# Altium footprint library Connector.PcbLib: 88 footprints (part 6 of 6)
Each footprint in its own frame and in the unit in brackets; x right, y up, seen from the top. Pads: shape width x height; smd on the part's side, far side on the other; paste and mask are expansions set on the pad; w line width, h text height; cw(c..) or ccw(c..) is an arc to the next point about the centre after c.
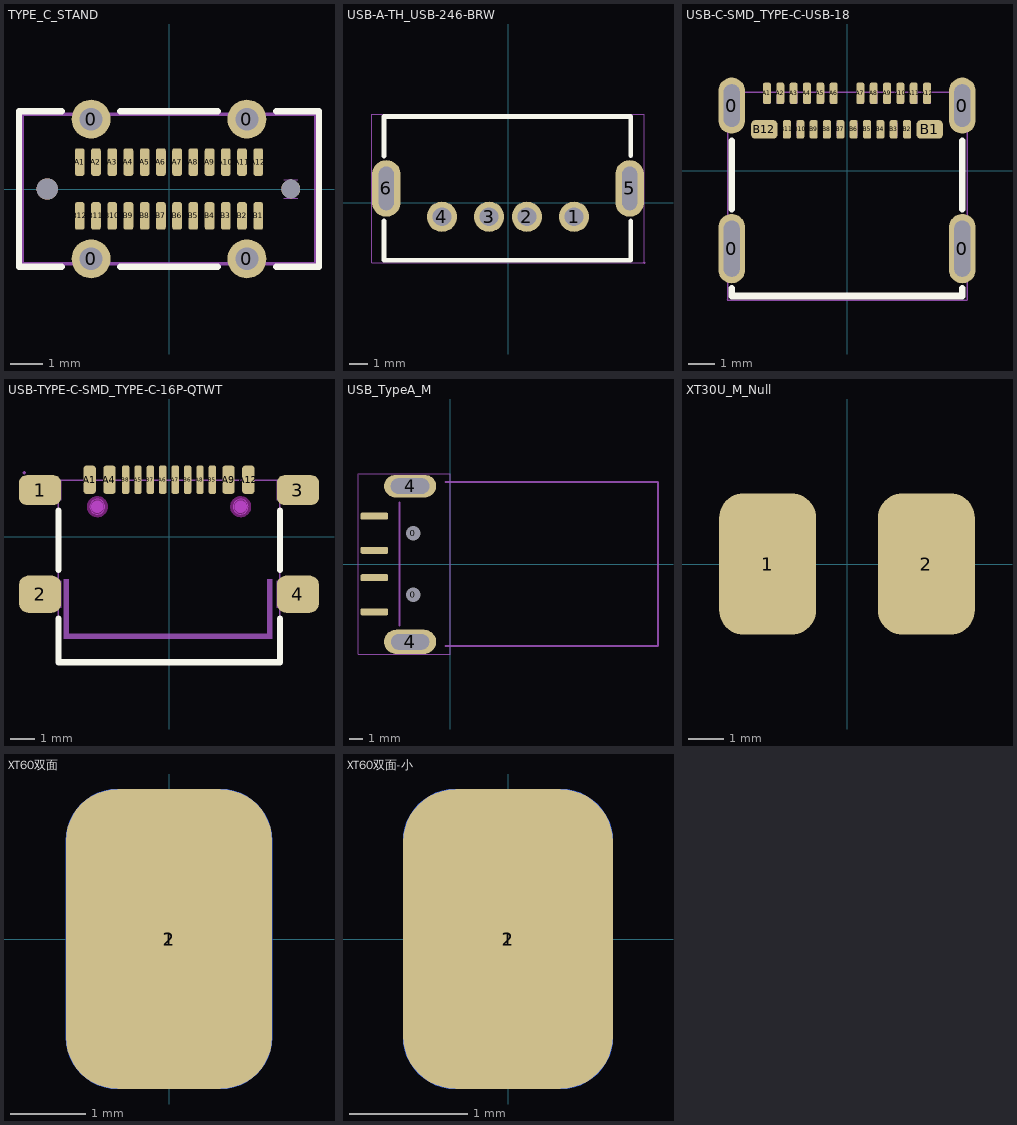
[diagram p5: the footprints below, top view; thin cyan lines are the x and y axes]

## TYPE_C_STAND [mm] "立贴Type-C_24P"
height 4.3
pads (30):
  round 1.2 hole 0.7: 0(-2.4,-2.15) 0(-2.4,2.15) 0(2.4,-2.15) 0(2.4,2.15)
  rrect50% 0.3x0.85 smd: A1(-2.75,0.83) A2(-2.25,0.83) A3(-1.75,0.83) A4(-1.25,0.83) A5(-0.75,0.83) A6(-0.25,0.83) A7(0.25,0.83) A8(0.75,0.83) A9(1.25,0.83) A10(1.75,0.83) A11(2.25,0.83) A12(2.75,0.83) B1(2.75,-0.83) B2(2.25,-0.83) B3(1.75,-0.83) B4(1.25,-0.83) B5(0.75,-0.83) B6(0.25,-0.83) B7(-0.25,-0.83) B8(-0.75,-0.83) B9(-1.25,-0.83) B10(-1.75,-0.83) B11(-2.25,-0.83) B12(-2.75,-0.83)
  round 0.66 hole 0.66 unplated: ""(-3.75,0)
  round 0.58 hole 0.58 unplated: ""(3.75,0)
Top Overlay:
  lines w0.2: -3.3,-2.4 -4.62,-2.4 -4.62,2.4 -3.3,2.4 ; -1.5,-2.4 1.5,-2.4 ; -1.5,2.4 1.5,2.4 ; 3.3,-2.4 4.62,-2.4 4.62,2.4 3.3,2.4
Mechanical 1:
  lines w0.01: 3.54,-0.29 3.96,-0.29 ; 3.54,0.29 3.96,0.29
Mechanical 13:
  lines w0.1: -4.52,-2.3 4.52,-2.3 4.52,2.3 -4.52,2.3 -4.52,-2.3
3D body "632722110112_1.step": height 7.39, standoff -1.32, extent -4.52,-2.3 4.52,2.3

## USB-A-TH_USB-246-BRW [mm]
pads (6):
  round 1.6 hole 1 paste-2539.97 mask+0.051: 1(3.5,-0.75) 2(1,-0.75) 3(-1,-0.75) 4(-3.5,-0.75)
  oval 1.524x3 hole 0.8 slot 2.3 at 90 deg paste-2539.97 mask+0.051: 5(6.45,0.75) 6(-6.45,0.75)
Top Overlay:
  lines w0.254: -6.577,-0.973 -6.577,-3.06 6.504,-3.06 6.504,-0.98 ; -6.577,2.473 -6.577,4.56 6.504,4.56 6.504,2.48
Mechanical 15:
  region: 6.77,1.5 6.77,0 6.13,0 6.13,1.5
  region: -6.13,1.5 -6.13,0 -6.77,0 -6.77,1.5
  region: 7.272,-3.187 7.272,-3.162 7.237,-3.127 7.187,-3.127 7.152,-3.162 7.152,-3.187 7.152,-3.212 7.187,-3.247 7.237,-3.247 7.272,-3.212 7.272,-3.187
  region: 3.9,-0.75 3.9,-0.67 3.839,-0.523 3.727,-0.411 3.58,-0.35 3.421,-0.35 3.274,-0.411 3.161,-0.523 3.1,-0.67 3.1,-0.75 3.1,-0.829 3.161,-0.976 3.274,-1.089 3.421,-1.15 3.58,-1.15 3.727,-1.089 3.839,-0.976 3.9,-0.829 3.9,-0.75
  region: 1.4,-0.75 1.4,-0.67 1.339,-0.523 1.227,-0.411 1.08,-0.35 0.92,-0.35 0.773,-0.411 0.661,-0.523 0.6,-0.67 0.6,-0.75 0.6,-0.829 0.661,-0.976 0.773,-1.089 0.92,-1.15 1.08,-1.15 1.227,-1.089 1.339,-0.976 1.4,-0.829 1.4,-0.75
  region: -0.6,-0.75 -0.6,-0.67 -0.661,-0.523 -0.773,-0.411 -0.92,-0.35 -1.08,-0.35 -1.227,-0.411 -1.339,-0.523 -1.4,-0.67 -1.4,-0.75 -1.4,-0.829 -1.339,-0.976 -1.227,-1.089 -1.08,-1.15 -0.92,-1.15 -0.773,-1.089 -0.661,-0.976 -0.6,-0.829 -0.6,-0.75
  region: -3.1,-0.75 -3.1,-0.67 -3.161,-0.523 -3.273,-0.411 -3.42,-0.35 -3.579,-0.35 -3.726,-0.411 -3.839,-0.523 -3.9,-0.67 -3.9,-0.75 -3.9,-0.829 -3.839,-0.976 -3.726,-1.089 -3.579,-1.15 -3.42,-1.15 -3.273,-1.089 -3.161,-0.976 -3.1,-0.829 -3.1,-0.75
  lines w0.051: -7.212,-3.187 -7.212,4.687 7.212,4.687 7.212,-3.187 -7.212,-3.187

## USB-C-SMD_TYPE-C-USB-18 [mm]
pads (28):
  oval 1x2.6 hole 0.6 slot 2.1 at 90 deg mask+0.05: 0(-4.32,-2.91) 0(4.32,-2.91)
  oval 1x2.1 hole 0.6 slot 1.6 at 90 deg mask+0.05: 0(-4.32,2.45) 0(4.32,2.45)
  rrect50% 0.3x0.8 smd mask+0.051: A1(-3,2.91) A2(-2.5,2.91) A3(-2,2.91) A4(-1.5,2.91) A5(-1,2.91) A6(-0.5,2.91) A7(0.5,2.91) A8(1,2.91) A9(1.5,2.91) A10(2,2.91) A11(2.5,2.91) A12(3,2.91)
  rrect50% 1x0.7 smd mask+0.05: B1(3.1,1.56) B12(-3.1,1.56)
  rrect50% 0.3x0.7 smd mask+0.051: B2(2.25,1.56) B3(1.75,1.56) B4(1.25,1.56) B5(0.75,1.56) B6(0.25,1.56) B7(-0.25,1.56) B8(-0.75,1.56) B9(-1.25,1.56) B10(-1.75,1.56) B11(-2.25,1.56)
Top Overlay:
  lines w0.254: -4.32,-4.391 -4.32,-4.68 4.32,-4.68 4.32,-4.391 ; -4.32,-1.429 -4.32,1.119 ; 4.32,-1.429 4.32,1.119
Top Paste:
  drawing of 28 lines, arcs and shapes, not listed
Mechanical 15:
  drawing of 36 lines, arcs and shapes, not listed
3D body "1.step": height 3.26, standoff -1, extent -4.475,-4.572 4.475,3.178

## USB-TYPE-C-SMD_TYPE-C-16P-QTWT [mm]
pads (16):
  rrect50% 1.7x1.2 smd: 1(-5.2,1.891) 3(5.2,1.891)
  rrect50% 1.7x1.5 smd: 2(-5.2,-2.309) 4(5.2,-2.309)
  rrect50% 0.5x1.14 smd: A1(-3.2,2.308) A4(-2.4,2.308) A9(2.4,2.308) A12(3.2,2.308)
  rrect50% 0.3x1.14 smd: A5(-1.25,2.308) A6(-0.25,2.308) A7(0.25,2.308) A8(1.25,2.309) B5(1.75,2.308) B6(0.75,2.308) B7(-0.75,2.308) B8(-1.75,2.309)
Top Overlay:
  lines w0.254: -4.46,-3.29 -4.46,-5.049 4.48,-5.049 4.48,-3.29 ; -4.46,-1.328 -4.46,1.06 ; 4.48,-1.328 4.48,1.061
Keep-Out Layer:
  board cut-out: -2.59,1.221 -2.591,1.28 -2.637,1.389 -2.721,1.472 -2.831,1.517 -2.949,1.517 -3.058,1.472 -3.143,1.389 -3.189,1.28 -3.19,1.221 -3.189,1.162 -3.143,1.053 -3.058,0.97 -2.949,0.925 -2.831,0.925 -2.721,0.97 -2.637,1.053 -2.591,1.162 -2.59,1.221
  board cut-out: 3.19,1.221 3.189,1.28 3.143,1.389 3.058,1.472 2.949,1.517 2.831,1.517 2.722,1.472 2.637,1.389 2.591,1.28 2.59,1.221 2.591,1.162 2.637,1.053 2.722,0.97 2.831,0.925 2.949,0.925 3.059,0.97 3.143,1.053 3.189,1.162 3.19,1.221
Mechanical 1:
  circle w0.025: c-2.89,1.221 r0.3
  circle w0.025: c2.89,1.221 r0.3
Mechanical 6:
  circle w0.25: c-2.89,1.221 r0.125
  circle w0.25: c2.89,1.221 r0.125
  region: -4.24,-1.699 -4.24,-4.099 -4.04,-4.099 -4.04,-1.699
  region: 4.16,-1.699 4.16,-4.099 3.96,-4.099 3.96,-1.699
  region: 3.96,-4.099 -4.04,-4.099 -4.04,-3.899 3.96,-3.899
Mechanical 15:
  region: -5.84,-1.759 -4.34,-1.759 -4.34,-2.859 -5.84,-2.859
  region: 4.34,-1.759 5.84,-1.759 5.84,-2.859 4.34,-2.859
  region: -5.84,2.291 -4.34,2.291 -4.34,1.491 -5.84,1.491
  region: 4.34,2.291 5.84,2.291 5.84,1.491 4.34,1.491
  region: 3,2.591 3.4,2.591 3.4,1.991 3,1.991
  region: 2.2,2.591 2.6,2.591 2.6,1.991 2.2,1.991
  region: -3.4,2.591 -3,2.591 -3,1.991 -3.4,1.991
  region: -2.6,2.591 -2.2,2.591 -2.2,1.991 -2.6,1.991
  region: 1.65,2.591 1.85,2.591 1.85,1.991 1.65,1.991
  region: 1.15,2.591 1.35,2.591 1.35,1.991 1.15,1.991
  region: 0.65,2.591 0.85,2.591 0.85,1.991 0.65,1.991
  region: 0.15,2.591 0.35,2.591 0.35,1.991 0.15,1.991
  region: -0.35,2.591 -0.15,2.591 -0.15,1.991 -0.35,1.991
  region: -0.85,2.591 -0.65,2.591 -0.65,1.991 -0.85,1.991
  region: -1.35,2.591 -1.15,2.591 -1.15,1.991 -1.35,1.991
  region: -1.85,2.591 -1.65,2.591 -1.65,1.991 -1.85,1.991
  region: -5.78,2.591 -5.78,2.616 -5.815,2.651 -5.865,2.651 -5.9,2.616 -5.9,2.591 -5.9,2.566 -5.865,2.531 -5.815,2.531 -5.78,2.566 -5.78,2.591
  lines w0.051: -4.47,-5.059 -4.47,2.291 4.47,2.291 4.47,-5.059 -4.47,-5.059
Multi-Layer keep-out:
  circle w0.254: c-2.89,1.221 r0.3
  circle w0.254: c2.89,1.221 r0.3

## USB_TypeA_M [mil] "公头USB_TypeA"
height 177.17
pads (8):
  round 32 hole 42: 0(-106.3,-88.58) 0(-106.3,88.58)
  rrect50% 80x20 smd: 1(-218,137.8) 2(-218,39.37) 3(-218,-39.37) 4(-218,-137.8)
  oval 150x70 hole 45 slot 110 at 0 deg: 4(-115,-224)
  oval 150x65 hole 45 slot 111 at 0 deg: 4(-115,224)
Mechanical 13:
  lines w6: -145.67,-176.18 -145.67,176.18 ; -12.99,-236.22 598.43,-236.22 598.43,236.22 -12.99,236.22
Mechanical 14:
  lines w2: -265,-260 0,-260 0,260 -265,260 -265,-260
3D body "SW3dPS-USB-Male Port.STEP": height 70, standoff -117.5, extent -145.67,-236.37 576.08,236.37

## XT30U_M_Null [mm] "XT30焊盘_不包含3D"
pads (2):
  rrect50% 2.75x4 smd mask+0.102: 1(-2.25,0) 2(2.25,0)

## XT60双面 [mm] "XT60双面"
pads (2):
  rrect50% 2.75x4 smd far side mask+0.102: 1(0,0)
  rrect50% 2.75x4 smd mask+0.102: 2(0,0)

## XT60双面-小 [mil] "XT60双面"
pads (2):
  rrect50% 70x100 smd far side mask+4: 1(0,0)
  rrect50% 70x100 smd mask+4: 2(0,0)